# Altium footprint library resistors.PcbLib: 5 footprints
Each footprint in its own frame and in the unit in brackets; x right, y up, seen from the top. Pads: shape width x height; smd on the part's side, far side on the other; paste and mask are expansions set on the pad; w line width, h text height; cw(c..) or ccw(c..) is an arc to the next point about the centre after c.
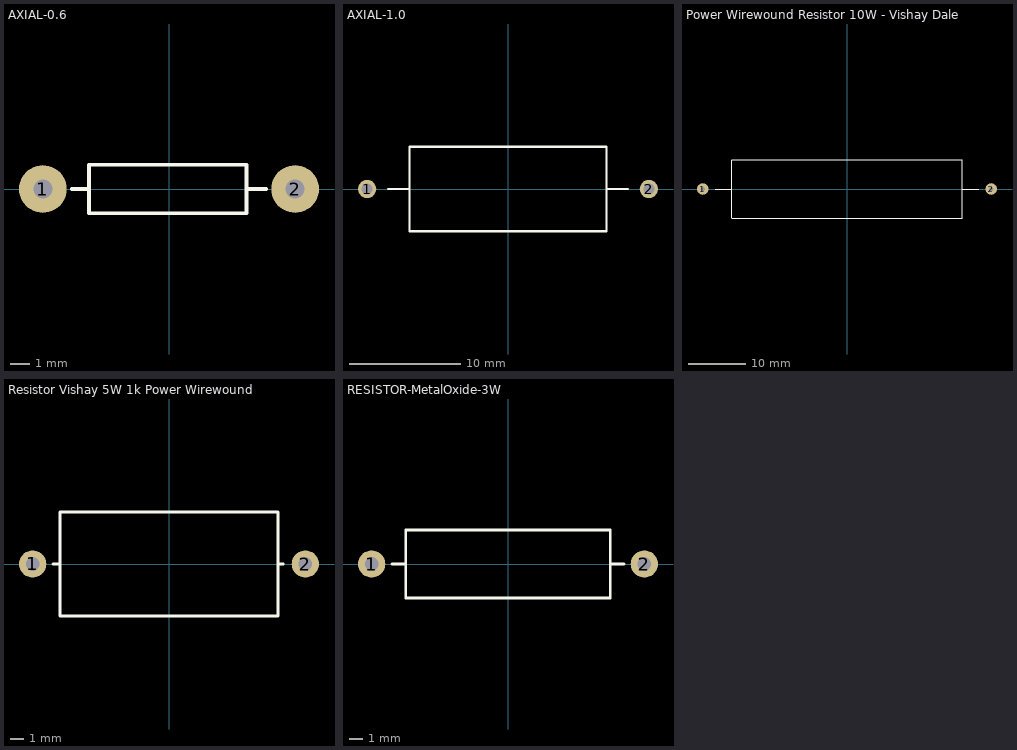
[diagram p0: the footprints below, top view; thin cyan lines are the x and y axes]

## AXIAL-0.6 [mm] "Axial Device, Thru-Hole; 2 Leads; 0.6 in Pin Spacing"
height 2.54
pads (2):
  round 2.5 hole 1: 1(-6.604,0) 2(6.604,0)
Top Overlay:
  lines w0.2: -5.08,0 -4.191,0 ; 4.191,0 5.08,0 ; -4.191,-1.27 4.064,-1.27 4.064,1.27 -4.191,1.27 -4.191,-1.27
3D body: height 3.5, standoff -1, extent -6.85,-1.5 6.942,1.5

## AXIAL-1.0 [mm] "Axial Device, Thru-Hole; 2 Leads; 1.0 in Pin Spacing"
height 7.62
pads (2):
  round 1.65 hole 1: 1(-12.7,0) 2(12.7,0)
Top Overlay:
  lines w0.2: -10.795,0 -8.89,0 ; 8.89,0 10.795,0 ; -8.89,-3.81 -8.89,3.81 8.89,3.81 8.89,-3.81 -8.89,-3.81

## Power Wirewound Resistor 10W - Vishay Dale [mm] "Axial Device, Thru-Hole; 2 Leads; 50mm Pin Spacing"
height 25
pads (2):
  round 2 hole 0.85: 1(-25,0) 2(25,0)
Top Overlay:
  lines w0.2: -22.86,0 -20.066,0 ; -20,-5.08 20,-5.08 ; -20,-5 -20,5 ; -20,5.08 20,5.08 ; 20,-5 20,5 ; 20.066,0 22.86,0
3D body: height 12.3, standoff -2, extent -25.4,-4.774 25.4,4.826

## Resistor Vishay 5W 1k Power Wirewound [mm] "Axial Device, Thru-Hole; 2 Leads; 1.0 in Pin Spacing"
height 7.62
pads (2):
  round 2 hole 1: 1(-10,0) 2(10,0)
Top Overlay:
  lines w0.2: -8.509,0 -8.128,0 ; 8.001,0 8.382,0 ; -8.001,-3.81 -8.001,3.81 8.001,3.81 8.001,-3.81 -8.001,-3.81
3D body: height 9.5, standoff -0.6, extent -10.4,-3.75 10.4,3.75

## RESISTOR-MetalOxide-3W [mm] "Axial Device, Thru-Hole; 2 Leads; 0.6 in Pin Spacing"
height 5
pads (2):
  round 2 hole 1: 1(-10,0) 2(10,0)
Top Overlay:
  lines w0.2: -8.509,0 -7.62,0 ; 7.493,2.5 7.493,-2.5 -7.5,-2.5 -7.5,2.5 7.5,2.5 ; 7.62,0 8.509,0
3D body: height 8.3, standoff -2, extent -11.1,-3.302 11.1,3.298